# Altium footprint library Common_TH.PcbLib: 16 footprints
Each footprint in its own frame and in the unit in brackets; x right, y up, seen from the top. Pads: shape width x height; smd on the part's side, far side on the other; paste and mask are expansions set on the pad; w line width, h text height; cw(c..) or ccw(c..) is an arc to the next point about the centre after c.
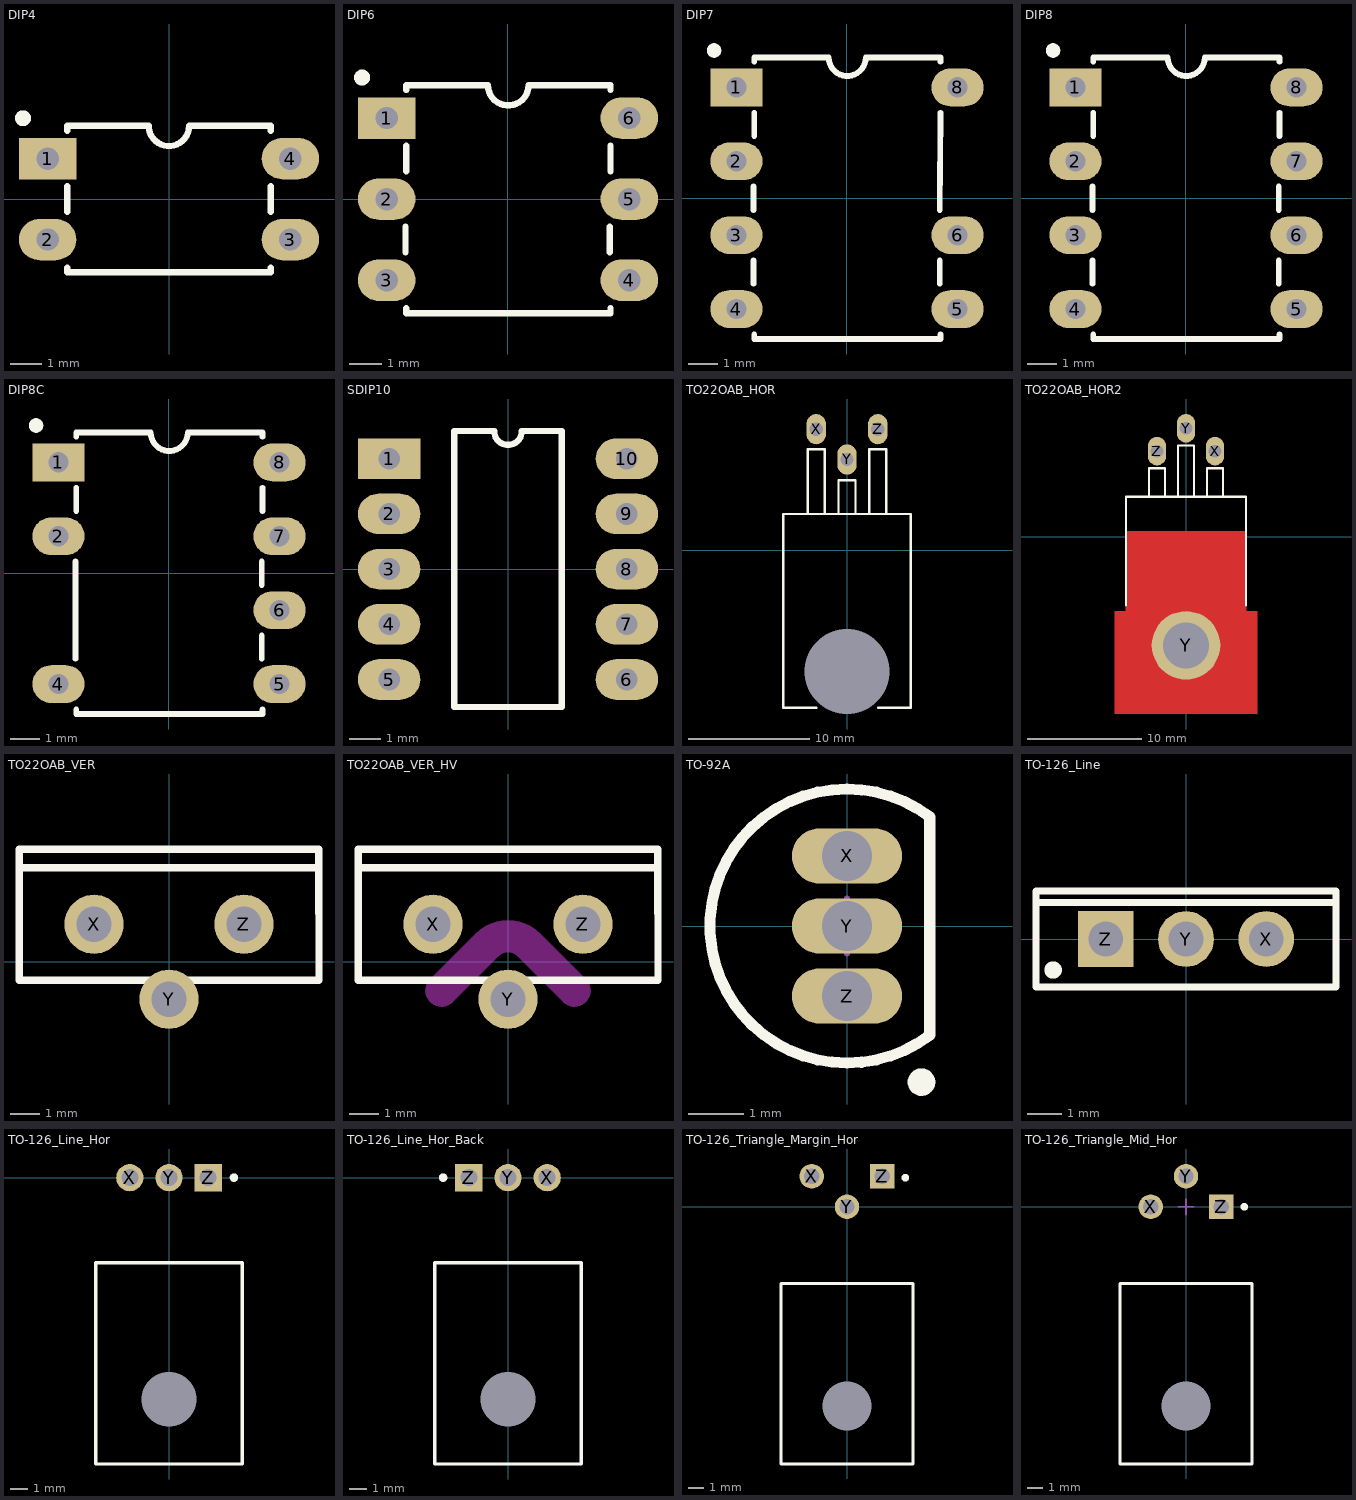
[diagram p0: the footprints below, top view; thin cyan lines are the x and y axes]

## DIP4 [mm]
height 4.38
pads (4):
  rect 1.8x1.3 hole 0.7: 1(-3.81,1.27)
  oval 1.8x1.3 hole 0.7: 2(-3.81,-1.27) 3(3.81,-1.27) 4(3.81,1.27)
Top Overlay:
  circle w0.25: c-4.582,2.54 r0.125
  lines w0.2: -3.2,-2.15 -3.2,-2.3 3.2,-2.3 3.2,-2.15 ; -3.2,-0.4 -3.2,0.4 ; -3.2,2.15 -3.2,2.3 -0.637,2.3 ccw(c-0.002,2.3) 0.633,2.3 3.2,2.3 3.2,2.15 ; 3.2,-0.4 3.2,0.4
3D body "DIP4.STEP": height 3.75, standoff -2.55, extent -3.859,-2.271 4.011,2.322

## DIP6 [mm]
height 4.38
pads (6):
  rect 1.8x1.3 hole 0.7: 1(-3.8,2.54)
  oval 1.8x1.3 hole 0.7: 2(-3.8,0) 3(-3.8,-2.54) 4(3.8,-2.54) 5(3.8,0) 6(3.8,2.54)
Top Overlay:
  circle w0.25: c-4.572,3.81 r0.125
  lines w0.2: -3.21,-1.67 -3.21,-0.87 ; -3.19,-3.42 -3.19,-3.57 3.21,-3.57 3.21,-3.42 ; -3.19,0.87 -3.19,1.67 ; -3.19,3.42 -3.19,3.57 -0.627,3.57 ccw(c0.008,3.57) 0.643,3.57 3.21,3.57 3.21,3.42 ; 3.19,-1.67 3.19,-0.87 ; 3.21,0.87 3.21,1.67
3D body "DIP-6.STEP": height 4.5, standoff -2.8, extent -3.925,-3.595 3.945,3.525

## DIP7 [mm]
height 4.38
pads (7):
  rect 1.8x1.3 hole 0.7: 1(-3.8,3.81)
  oval 1.8x1.3 hole 0.7: 2(-3.8,1.27) 3(-3.8,-1.27) 4(-3.8,-3.81) 5(3.8,-3.81) 6(3.8,-1.27) 8(3.8,3.81)
Top Overlay:
  circle w0.25: c-4.572,5.08 r0.125
  lines w0.2: -3.21,-2.94 -3.21,-2.14 ; -3.21,-0.4 -3.21,0.4 ; -3.19,-4.69 -3.19,-4.84 3.21,-4.84 3.21,-4.69 ; -3.19,2.14 -3.19,2.94 ; -3.19,4.69 -3.19,4.84 -0.627,4.84 ccw(c0.008,4.84) 0.643,4.84 3.21,4.84 3.21,4.69 ; 3.19,-2.94 3.19,-2.14 ; 3.19,-0.4 3.21,2.94
3D body "DIP-6.STEP": height 4.5, standoff -2.8, extent -3.925,-4.865 3.945,2.255
3D body "DIP-6.STEP": height 4.5, standoff -2.8, extent -3.925,-2.325 3.945,4.795

## DIP8 [mm]
height 4.38
pads (8):
  rect 1.8x1.3 hole 0.7: 1(-3.8,3.81)
  oval 1.8x1.3 hole 0.7: 2(-3.8,1.27) 3(-3.8,-1.27) 4(-3.8,-3.81) 5(3.8,-3.81) 6(3.8,-1.27) 7(3.8,1.27) 8(3.8,3.81)
Top Overlay:
  circle w0.25: c-4.572,5.08 r0.125
  lines w0.2: -3.21,-2.94 -3.21,-2.14 ; -3.21,-0.4 -3.21,0.4 ; -3.19,-4.69 -3.19,-4.84 3.21,-4.84 3.21,-4.69 ; -3.19,2.14 -3.19,2.94 ; -3.19,4.69 -3.19,4.84 -0.627,4.84 ccw(c0.008,4.84) 0.643,4.84 3.21,4.84 3.21,4.69 ; 3.19,-2.94 3.19,-2.14 ; 3.19,-0.4 3.19,0.4 ; 3.21,2.14 3.21,2.94
3D body "DIP-6.STEP": height 4.5, standoff -2.8, extent -3.925,-4.865 3.945,2.255
3D body "DIP-6.STEP": height 4.5, standoff -2.8, extent -3.925,-2.325 3.945,4.795

## DIP8C [mm]
pads (7):
  rect 1.8x1.3 hole 0.7: 1(-3.8,3.81)
  oval 1.8x1.3 hole 0.7: 2(-3.8,1.27) 4(-3.8,-3.81) 5(3.8,-3.81) 6(3.8,-1.27) 7(3.8,1.27) 8(3.8,3.81)
Top Overlay:
  circle w0.25: c-4.572,5.08 r0.125
  lines w0.2: -3.21,-2.94 -3.21,0.4 ; -3.19,-4.69 -3.19,-4.84 3.21,-4.84 3.21,-4.69 ; -3.19,2.14 -3.19,2.94 ; -3.19,4.69 -3.19,4.84 -0.627,4.84 ccw(c0.008,4.84) 0.643,4.84 3.21,4.84 3.21,4.69 ; 3.19,-2.94 3.19,-2.14 ; 3.19,-0.4 3.19,0.4 ; 3.21,2.14 3.21,2.94
3D body "DIP-6.STEP": height 4.5, standoff -2.8, extent -3.925,-4.865 3.945,2.255
3D body "DIP-6.STEP": height 4.5, standoff -2.8, extent -3.925,-2.325 3.945,4.795

## SDIP10 [mm]
height 5.33
pads (10):
  rect 2x1.3 hole 0.7: 1(-3.81,3.54)
  oval 2x1.3 hole 0.7: 2(-3.81,1.77) 3(-3.81,0) 4(-3.81,-1.77) 5(-3.81,-3.54) 6(3.81,-3.54) 7(3.81,-1.77) 8(3.81,0) 9(3.81,1.77) 10(3.81,3.54)
Top Overlay:
  lines w0.2: -1.725,-4.425 -1.725,4.425 -0.442,4.425 ccw(c0,4.425) 0.442,4.425 1.725,4.425 1.725,-4.425 -1.725,-4.425
3D body: height 5.33, standoff 0.38, extent -3.41,-4.425 3.39,4.425

## TO22OAB_HOR [mm]
pads (4):
  round 0 hole 7 unplated: 0(0,-10)
  oval 1.6x2.5 hole 1.1: X(-2.54,10) Y(0,7.5) Z(2.54,10)
Top Overlay:
  lines w0.2: -3.24,3 -3.24,8.34 -1.84,8.34 -1.84,3 ; -2.515,-13 -5.25,-13 -5.25,3 5.25,3 5.25,-13 2.565,-13 ; -0.7,3 -0.7,5.8 0.7,5.8 0.7,3 ; 1.84,3 1.84,8.34 3.24,8.34 3.24,3
3D body "TO-220-Horiz_w_bent_leads.STEP": height 5, standoff -2.2, extent -4.95,-12.8 4.95,10.292

## TO22OAB_HOR2 [mm]
pads (4):
  oval 1.6x2.5 hole 1.1: X(2.54,7.5) Y(0,9.5) Z(-2.54,7.5)
  round 6 hole 4: Y(0,-9.5)
Top Layer:
  region: -5.25,0.5 5.25,0.5 5.25,-6.5 6.25,-6.5 6.25,-15.5 -6.25,-15.5 -6.25,-6.5 -5.25,-6.5
Top Overlay:
  lines w0.2: -5.25,-6 -5.25,3.5 5.25,3.5 5.25,-6 ; -3.24,3.5 -3.24,6 -1.84,6 -1.84,3.5 ; -0.7,3.5 -0.7,8 0.7,8 0.7,3.5 ; 1.84,3.5 1.84,6 3.24,6 3.24,3.5
Top Solder:
  region: -5.25,0.5 5.25,0.5 5.25,-6.5 6.25,-6.5 6.25,-15.5 -6.25,-15.5 -6.25,-6.5 -5.25,-6.5
3D body "TO-220_horizontal_triangle_mid.STEP": height 4.65, standoff -3, extent -5.25,-12.5 5.25,9.75

## TO22OAB_VER [mm]
pads (3):
  round 2 hole 1.2: X(-2.54,1.27) Y(0,-1.27) Z(2.54,1.27)
Top Overlay:
  lines w0.254: -5.08,3.175 5.08,3.175 ; -5.08,-0.635 5.08,-0.635 5.08,3.81 -5.08,3.81 -5.08,-0.635
3D body "TO-220-Vert_w_bent_center_lead.STEP": height 2, standoff -23.8, extent -4.99,-1.775 4.91,3.47

## TO22OAB_VER_HV [mm]
pads (3):
  round 2 hole 1.2: X(-2.54,1.27) Y(0,-1.27) Z(2.54,1.27)
Top Overlay:
  lines w0.254: -5.08,3.175 5.08,3.175 ; -5.08,-0.635 5.08,-0.635 5.08,3.81 -5.08,3.81 -5.08,-0.635
Keep-Out Layer:
  board cut-out: -2.608,-0.625 -2.678,-0.696 -2.754,-0.879 -2.754,-1.078 -2.678,-1.262 -2.538,-1.403 -2.354,-1.479 -2.155,-1.479 -1.971,-1.403 -1.901,-1.332 -0.352,0.216 -0.277,0.278 -0.097,0.352 0.097,0.352 0.277,0.278 0.353,0.216 1.901,-1.332 1.971,-1.403 2.155,-1.479 2.354,-1.479 2.538,-1.403 2.678,-1.262 2.755,-1.078 2.755,-0.879 2.678,-0.696 2.608,-0.625 1.06,0.923 0.955,1.027 0.71,1.191 0.437,1.304 0.148,1.362 0,1.362 -0.148,1.362 -0.437,1.304 -0.71,1.192 -0.955,1.028 -1.059,0.923
Keep-Out Layer:
  lines w0.1: -2.608,-0.625 ccw(c-2.255,-0.979) -1.901,-1.333 -0.352,0.216 cw(c0,-0.136) 0.352,0.216 1.901,-1.333 ccw(c2.255,-0.979) 2.608,-0.625 1.06,0.923 ccw(c0,-0.136) -1.06,0.923 -2.608,-0.625
3D body "TO-220-Vert_w_bent_center_lead.STEP": height 2, standoff -23.8, extent -4.99,-1.775 4.91,3.47

## TO-92A [mm] "TO, Flat Index; 3 In-Line, Axial Leads; Body Dia. 4.5mm; Leads 0.51 x 0.48 mm (max)"
height 6.86
pads (3):
  oval 2x1 hole 0.9: X(0,1.27) Y(0,0) Z(0,-1.27)
Top Overlay:
  circle w0.25: c1.35,-2.83 r0.125
  lines w0.2: 1.5,-1.98 cw(c0,0) 1.5,1.98 1.5,-1.98
Mechanical 13:
  lines w0.1: 1.5,-1.98 cw(c0,0) 1.5,1.98 1.5,-1.98
Mechanical 15:
  lines w0.1: -0.5,0 0.5,0 ; 0,-0.5 0,0.5
3D body: height 6.86, standoff 2.2, extent -2.485,-2.495 1.501,2.495

## TO-126_Line [mm]
pads (3):
  round 1.6 hole 1: X(2.3,0) Y(0,0)
  rect 1.6x1.6 hole 1: Z(-2.3,0)
Top Overlay:
  circle w0.25: c-3.81,-0.889 r0.125
  lines w0.2: -4.3,1.05 4.3,1.05 ; -4.3,-1.375 4.3,-1.375 4.3,1.375 -4.3,1.375 -4.3,-1.375
Mechanical 15:
  lines w0.1: -0.5,0 0.5,0 ; 0,-0.5 0,0.5
3D body "TO-126_vertical_line.stp": height 15.8, standoff -3, extent -4.3,-1.375 4.3,1.375

## TO-126_Line_Hor [mm]
pads (4):
  round 0 hole 3.2 unplated: 0(0,-13)
  round 1.6 hole 1: X(-2.3,0) Y(0,0)
  rect 1.6x1.6 hole 1: Z(2.3,0)
Top Overlay:
  circle w0.25: c3.81,0 r0.125
  lines w0.2: -4.3,-16.8 -4.3,-5 4.3,-5 4.3,-16.8 -4.3,-16.8
Mechanical 15:
  lines w0.1: -0.5,0 0.5,0 ; 0,-0.5 0,0.5
3D body "TO-126_horizontal_line.stp": height 4.75, standoff -1, extent -4.3,-16.8 4.3,0.25

## TO-126_Line_Hor_Back [mm]
pads (4):
  round 0 hole 3.2 unplated: 0(0,-13)
  round 1.6 hole 1: X(2.3,0) Y(0,0)
  rect 1.6x1.6 hole 1: Z(-2.3,0)
Top Overlay:
  circle w0.25: c-3.81,0 r0.125
  lines w0.2: -4.3,-16.8 -4.3,-5 4.3,-5 4.3,-16.8 -4.3,-16.8
Mechanical 15:
  lines w0.1: -0.5,0 0.5,0 ; 0,-0.5 0,0.5
3D body "TO-126_horizontal_back_line.stp": height 2.8, standoff -5, extent -4.3,-16.8 4.3,0.25

## TO-126_Triangle_Margin_Hor [mm]
pads (4):
  round 0 hole 3.2 unplated: 0(0,-13)
  round 1.6 hole 1: X(-2.3,2) Y(0,0)
  rect 1.6x1.6 hole 1: Z(2.3,2)
Top Overlay:
  circle w0.25: c3.81,1.905 r0.125
  lines w0.2: -4.3,-16.8 -4.3,-5 4.3,-5 4.3,-16.8 -4.3,-16.8
Mechanical 15:
  lines w0.1: -0.5,0 0.5,0 ; 0,-0.5 0,0.5
3D body "TO-126_horizontal_triangle_margin.stp": height 4.75, standoff -1, extent -4.3,-16.8 4.3,2.25

## TO-126_Triangle_Mid_Hor [mm]
pads (4):
  round 0 hole 3.2 unplated: 0(0,-13)
  round 1.6 hole 1: X(-2.3,0) Y(0,2)
  rect 1.6x1.6 hole 1: Z(2.3,0)
Top Overlay:
  circle w0.25: c3.81,0 r0.125
  lines w0.2: -4.3,-16.8 -4.3,-5 4.3,-5 4.3,-16.8 -4.3,-16.8
Mechanical 15:
  lines w0.1: -0.5,0 0.5,0 ; 0,-0.5 0,0.5
3D body "TO-126_horizontal_triangle_mid.stp": height 4.75, standoff -1, extent -4.3,-16.8 4.3,2.25